# Altium footprint library LM27313XMF.PcbLib: 1 footprints
Each footprint in its own frame and in the unit in brackets; x right, y up, seen from the top. Pads: shape width x height; smd on the part's side, far side on the other; paste and mask are expansions set on the pad; w line width, h text height; cw(c..) or ccw(c..) is an arc to the next point about the centre after c.
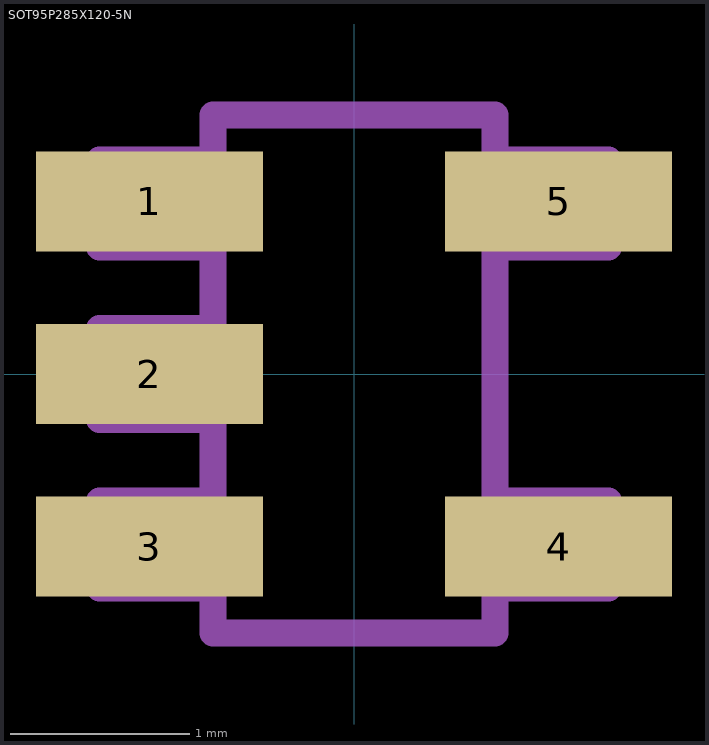
[diagram p0: the footprint, top view; thin cyan lines are the x and y axes]

## SOT95P285X120-5N [mil]
pads (5):
  rect 50x22 smd: 1(-45,38) 2(-45,0) 3(-45,-38) 4(45,-38) 5(45,38)
Mechanical 1:
  lines w6: -56,-47 -31,-47 -31,-28 -56,-28 -56,-47 ; -56,-10 -31,-10 -31,10 -56,10 -56,-10 ; -56,28 -31,28 -31,47 -56,47 -56,28 ; -31,-57 -31,57 31,57 31,-57 -31,-57 ; 31,-47 56,-47 56,-28 31,-28 31,-47 ; 31,28 56,28 56,47 31,47 31,28